# Altium integrated library Analog Devices Clock Generation and Distribution.IntLib: 120 symbols (part 1 of 18)
Pins are listed as number, name and electrical type; pins without a type are passive.

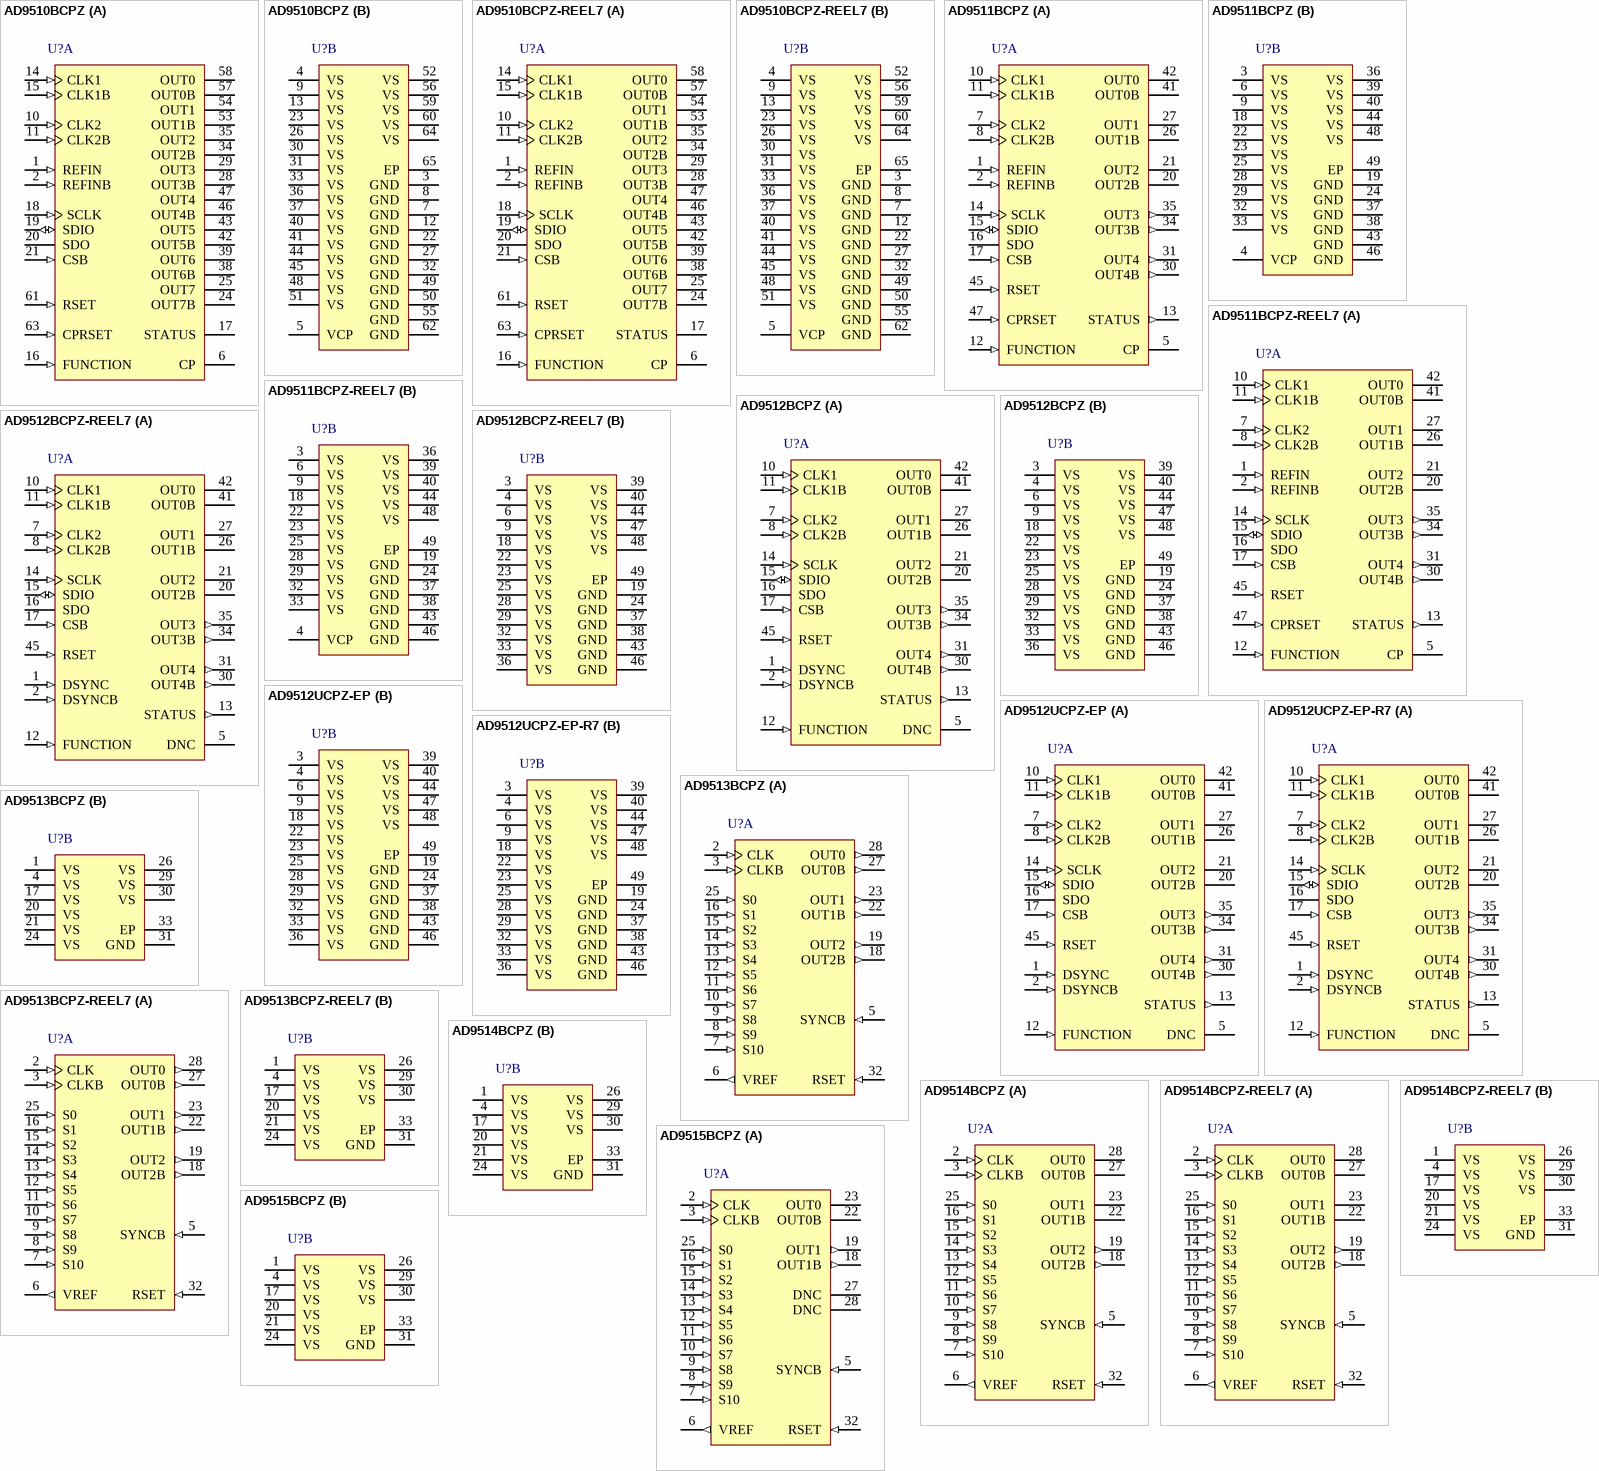
[diagram p0: symbols AD9510BCPZ to AD9515BCPZ]

## AD9510BCPZ
designator U?
8 Outputs, 1.2 GHz Clock Distribution IC with PLL Core, Dividers and Delay Adjust, 3.3 V Supply, Industrial, 64-pin QFN (CP-64-1), Tray; Manufacturer: Analog Devices; PartNumber: AD9510BCPZ; # of Inputs: 2; # of Outputs: 8; Supply Voltage (V): 3.3; I/O Interface: Serial; Max f-out: 1.2 GHz; On-Chip VCO or DCO: No; Output Logic: CMOS, LVDS, LVPECL; DatasheetVersion: Rev. A; PackageVersion: 063006-B, 08/2007; PackageReference: CP-64-1; PackageDescription: 64-Pin Lead Frame Chip Scale Package, Body 9 x 9 mm, Pitch 0.5 mm; Supplier 1: Digi-Key; Supplier Part Number 1: AD9510BCPZ-ND; Supplier 2: Farnell; Supplier Part Number 2: 1528258; Supplier 3: Farnell; Supplier Part Number 3: 1078243; Supplier 4: Newark; Supplier Part Number 4: 19M1011; Supplier 5: Mouser; Supplier Part Number 5: 584-AD9510BCPZ; Packing: Tray; Mounting Technology: Surface Mount; Code_JEDEC: MO-220-VMMD-4; ComponentLink1Description: Manufacturer URL; ComponentLink1URL: http://www.analog.com/en/index.html; ComponentLink2Description: Datasheet; ComponentLink2URL: http://www.analog.com/static/imported-files/data_sheets/AD9510.pdf; ComponentLink3Description: Package Specification; ComponentLink3URL: http://www.analog.com/static/imported-files/packages/PKG_PDF/LFCSP(CP)/CP-64/CP_64_1.pdf; ComponentLink4Description: Product URL; ComponentLink4URL: http://www.analog.com/en/clock-and-timing/clock-generation-and-distribution/ad9510/products/product.html
footprint ADI-CP-64-1_N (QFN, 64-Leads, Body 9x9mm, Pitch 0.5mm, Thermal Pad 4.7x4.7mm, IPC High Density)
footprint ADI-CP-64-1_L (QFN, 64-Leads, Body 9x9mm, Pitch 0.5mm, Thermal Pad 4.7x4.7mm, IPC Low Density)
footprint ADI-CP-64-1_M (QFN, 64-Leads, Body 9x9mm, Pitch 0.5mm, Thermal Pad 4.7x4.7mm, IPC Medium Density)
part A pins: 1 REFIN (in) "PLL Reference Input.", 2 REFINB (in) "Complementary PLL Reference Input.", 6 CP (hiz) "Charge Pump Output.", 10 CLK2 (in) "Clock Input Used to Connect External VCO/VCXO to Feedback Divider, N. CLK2 also drives the distribution section of the chip and may be used as a generic clock input when PLL is not used.", 11 CLK2B (in) "Complementary Clock Input Used in Conjunction with CLK2.", 14 CLK1 (in) "Clock Input that Drives Distribution Section of the Chip.", 15 CLK1B (in) "Complementary Clock Input Used in Conjunction with CLK1.", 16 FUNCTION (in) "Multipurpose Input May Be Programmed as a Reset (RESETB), Sync (SYNCB), or Power-Down (PDB) Pin. This pin is internally pulled down by a 30 k ohm resistor. If this pin is left NC, the part is in reset by default. To avoid (See Datasheet)", 17 STATUS (oc) "Output Used to Monitor PLL Status and Sync Status.", 18 SCLK (in) "Serial Data Clock.", 19 SDIO (io) "Serial Data I/O.", 20 SDO (hiz) "Serial Data Output.", 21 CSB (in) "Serial Port Chip Select.", 24 OUT7B (hiz) "Complementary LVDS/Inverted CMOS Output.", 25 OUT7 (hiz) "LVDS/CMOS Output.", 28 OUT3B (hiz) "Complementary LVPECL Output.", 29 OUT3 (hiz) "LVPECL Output.", 34 OUT2B (hiz) "Complementary LVPECL Output.", 35 OUT2 (hiz) "LVPECL Output.", 38 OUT6B (hiz) "Complementary LVDS/Inverted CMOS Output. OUT6 includes a delay block.", 39 OUT6 (hiz) "LVDS/CMOS Output. OUT6 includes a delay block.", 42 OUT5B (hiz) "Complementary LVDS/Inverted CMOS Output. OUT5 includes a delay block.", 43 OUT5 (hiz) "LVDS/CMOS Output. OUT5 includes a delay block.", 46 OUT4B (hiz) "Complementary LVDS/Inverted CMOS Output.", 47 OUT4 (hiz) "LVDS/CMOS Output.", 53 OUT1B (hiz) "Complementary LVPECL Output.", 54 OUT1 (hiz) "LVPECL Output.", 57 OUT0B (hiz) "Complementary LVPECL Output.", 58 OUT0 (hiz) "LVPECL Output.", 61 RSET (in) "Current Set Resistor to Ground. Nominal value = 4.12 k ohm.", 63 CPRSET (in) "Charge Pump Current Set Resistor to Ground. Nominal value = 5.1 k ohm."
part B pins: 3 GND (power) "Ground.", 4 VS (power) "Power Supply (3.3 V) VS.", 5 VCP (power) "Charge Pump Power Supply VCPS. It should be greater than or equal to VS. VCPS may be set as high as 5.5 V for VCOs requiring extended tuning range", 7 GND (power) "Ground.", 8 GND (power) "Ground.", 9 VS (power) "Power Supply (3.3 V) VS.", 12 GND (power) "Ground.", 13 VS (power) "Power Supply (3.3 V) VS.", 22 GND (power) "Ground.", 23 VS (power) "Power Supply (3.3 V) VS.", 26 VS (power) "Power Supply (3.3 V) VS.", 27 GND (power) "Ground.", 30 VS (power) "Power Supply (3.3 V) VS.", 31 VS (power) "Power Supply (3.3 V) VS.", 32 GND (power) "Ground.", 33 VS (power) "Power Supply (3.3 V) VS.", 36 VS (power) "Power Supply (3.3 V) VS.", 37 VS (power) "Power Supply (3.3 V) VS.", 40 VS (power) "Power Supply (3.3 V) VS.", 41 VS (power) "Power Supply (3.3 V) VS.", 44 VS (power) "Power Supply (3.3 V) VS.", 45 VS (power) "Power Supply (3.3 V) VS.", 48 VS (power) "Power Supply (3.3 V) VS.", 49 GND (power) "Ground.", 50 GND (power) "Ground.", 51 VS (power) "Power Supply (3.3 V) VS.", 52 VS (power) "Power Supply (3.3 V) VS.", 55 GND (power) "Ground.", 56 VS (power) "Power Supply (3.3 V) VS.", 59 VS (power) "Power Supply (3.3 V) VS.", 60 VS (power) "Power Supply (3.3 V) VS.", 62 GND (power) "Ground.", 64 VS (power) "Power Supply (3.3 V) VS.", 65 EP (power) "Note that the exposed paddle on this package is an electrical connection as well as a thermal enhancement. For the device to function properly, the paddle must be attached to ground, GND."

## AD9510BCPZ-REEL7
designator U?
8 Outputs, 1.2 GHz Clock Distribution IC with PLL Core, Dividers and Delay Adjust, 3.3 V Supply, Industrial, 64-pin QFN (CP-64-1), Reel; Manufacturer: Analog Devices; PartNumber: AD9510BCPZ-REEL7; # of Inputs: 2; # of Outputs: 8; Supply Voltage (V): 3.3; I/O Interface: Serial; Max f-out: 1.2 GHz; On-Chip VCO or DCO: No; Output Logic: CMOS, LVDS, LVPECL; DatasheetVersion: Rev. A; PackageVersion: 063006-B, 08/2007; PackageReference: CP-64-1; PackageDescription: 64-Pin Lead Frame Chip Scale Package, Body 9 x 9 mm, Pitch 0.5 mm; Supplier 1: Digi-Key; Supplier Part Number 1: AD9510BCPZ-REEL7-ND; Supplier 2: Newark; Supplier Part Number 2: 59K7280; Supplier 3: Mouser; Supplier Part Number 3: 584-AD9510BCPZ-R7; Packing: Reel; Mounting Technology: Surface Mount; Code_JEDEC: MO-220-VMMD-4; ComponentLink1Description: Manufacturer URL; ComponentLink1URL: http://www.analog.com/en/index.html; ComponentLink2Description: Datasheet; ComponentLink2URL: http://www.analog.com/static/imported-files/data_sheets/AD9510.pdf; ComponentLink3Description: Package Specification; ComponentLink3URL: http://www.analog.com/static/imported-files/packages/PKG_PDF/LFCSP(CP)/CP-64/CP_64_1.pdf; ComponentLink4Description: Product URL; ComponentLink4URL: http://www.analog.com/en/clock-and-timing/clock-generation-and-distribution/ad9510/products/product.html
footprint ADI-CP-64-1_N (QFN, 64-Leads, Body 9x9mm, Pitch 0.5mm, Thermal Pad 4.7x4.7mm, IPC High Density)
footprint ADI-CP-64-1_L (QFN, 64-Leads, Body 9x9mm, Pitch 0.5mm, Thermal Pad 4.7x4.7mm, IPC Low Density)
footprint ADI-CP-64-1_M (QFN, 64-Leads, Body 9x9mm, Pitch 0.5mm, Thermal Pad 4.7x4.7mm, IPC Medium Density)
part A pins: 1 REFIN (in) "PLL Reference Input.", 2 REFINB (in) "Complementary PLL Reference Input.", 6 CP (hiz) "Charge Pump Output.", 10 CLK2 (in) "Clock Input Used to Connect External VCO/VCXO to Feedback Divider, N. CLK2 also drives the distribution section of the chip and may be used as a generic clock input when PLL is not used.", 11 CLK2B (in) "Complementary Clock Input Used in Conjunction with CLK2.", 14 CLK1 (in) "Clock Input that Drives Distribution Section of the Chip.", 15 CLK1B (in) "Complementary Clock Input Used in Conjunction with CLK1.", 16 FUNCTION (in) "Multipurpose Input May Be Programmed as a Reset (RESETB), Sync (SYNCB), or Power-Down (PDB) Pin. This pin is internally pulled down by a 30 k ohm resistor. If this pin is left NC, the part is in reset by default. To avoid (See Datasheet)", 17 STATUS (oc) "Output Used to Monitor PLL Status and Sync Status.", 18 SCLK (in) "Serial Data Clock.", 19 SDIO (io) "Serial Data I/O.", 20 SDO (hiz) "Serial Data Output.", 21 CSB (in) "Serial Port Chip Select.", 24 OUT7B (hiz) "Complementary LVDS/Inverted CMOS Output.", 25 OUT7 (hiz) "LVDS/CMOS Output.", 28 OUT3B (hiz) "Complementary LVPECL Output.", 29 OUT3 (hiz) "LVPECL Output.", 34 OUT2B (hiz) "Complementary LVPECL Output.", 35 OUT2 (hiz) "LVPECL Output.", 38 OUT6B (hiz) "Complementary LVDS/Inverted CMOS Output. OUT6 includes a delay block.", 39 OUT6 (hiz) "LVDS/CMOS Output. OUT6 includes a delay block.", 42 OUT5B (hiz) "Complementary LVDS/Inverted CMOS Output. OUT5 includes a delay block.", 43 OUT5 (hiz) "LVDS/CMOS Output. OUT5 includes a delay block.", 46 OUT4B (hiz) "Complementary LVDS/Inverted CMOS Output.", 47 OUT4 (hiz) "LVDS/CMOS Output.", 53 OUT1B (hiz) "Complementary LVPECL Output.", 54 OUT1 (hiz) "LVPECL Output.", 57 OUT0B (hiz) "Complementary LVPECL Output.", 58 OUT0 (hiz) "LVPECL Output.", 61 RSET (in) "Current Set Resistor to Ground. Nominal value = 4.12 k ohm.", 63 CPRSET (in) "Charge Pump Current Set Resistor to Ground. Nominal value = 5.1 k ohm."
part B pins: 3 GND (power) "Ground.", 4 VS (power) "Power Supply (3.3 V) VS.", 5 VCP (power) "Charge Pump Power Supply VCPS. It should be greater than or equal to VS. VCPS may be set as high as 5.5 V for VCOs requiring extended tuning range", 7 GND (power) "Ground.", 8 GND (power) "Ground.", 9 VS (power) "Power Supply (3.3 V) VS.", 12 GND (power) "Ground.", 13 VS (power) "Power Supply (3.3 V) VS.", 22 GND (power) "Ground.", 23 VS (power) "Power Supply (3.3 V) VS.", 26 VS (power) "Power Supply (3.3 V) VS.", 27 GND (power) "Ground.", 30 VS (power) "Power Supply (3.3 V) VS.", 31 VS (power) "Power Supply (3.3 V) VS.", 32 GND (power) "Ground.", 33 VS (power) "Power Supply (3.3 V) VS.", 36 VS (power) "Power Supply (3.3 V) VS.", 37 VS (power) "Power Supply (3.3 V) VS.", 40 VS (power) "Power Supply (3.3 V) VS.", 41 VS (power) "Power Supply (3.3 V) VS.", 44 VS (power) "Power Supply (3.3 V) VS.", 45 VS (power) "Power Supply (3.3 V) VS.", 48 VS (power) "Power Supply (3.3 V) VS.", 49 GND (power) "Ground.", 50 GND (power) "Ground.", 51 VS (power) "Power Supply (3.3 V) VS.", 52 VS (power) "Power Supply (3.3 V) VS.", 55 GND (power) "Ground.", 56 VS (power) "Power Supply (3.3 V) VS.", 59 VS (power) "Power Supply (3.3 V) VS.", 60 VS (power) "Power Supply (3.3 V) VS.", 62 GND (power) "Ground.", 64 VS (power) "Power Supply (3.3 V) VS.", 65 EP (power) "Note that the exposed paddle on this package is an electrical connection as well as a thermal enhancement. For the device to function properly, the paddle must be attached to ground, GND."

## AD9511BCPZ
designator U?
5 Outputs, 1.2 GHz Clock Distribution IC with PLL Core, Dividers and Delay Adjust, 3.3 V Supply, Industrial, 48-pin QFN (CP-48-1), Tray; Manufacturer: Analog Devices; PartNumber: AD9511BCPZ; # of Inputs: 2; # of Outputs: 5; Supply Voltage (V): 3.3; I/O Interface: Serial; Max f-out: 1.2 GHz; On-Chip VCO or DCO: No; Output Logic: CMOS, LVDS, LVPECL; DatasheetVersion: Rev. A; PackageReference: CP-48-1; PackageDescription: 48-Pin Lead Frame Chip Scale Package, Body 7 x 7 mm, Pitch 0.5 mm; Supplier 1: Digi-Key; Supplier Part Number 1: AD9511BCPZ-ND; Supplier 2: Farnell; Supplier Part Number 2: 1078242; Supplier 3: Newark; Supplier Part Number 3: 19M8941; Supplier 4: Mouser; Supplier Part Number 4: 584-AD9511BCPZ; Packing: Tray; Mounting Technology: Surface Mount; Code_JEDEC: MO-220-VKKD-2; ComponentLink1Description: Manufacturer URL; ComponentLink1URL: http://www.analog.com/en/index.html; ComponentLink2Description: Datasheet; ComponentLink2URL: http://www.analog.com/static/imported-files/data_sheets/AD9511.pdf; ComponentLink3Description: Package Specification; ComponentLink3URL: http:/www.analog.com/static/imported-files/packages/PKG_PDF/LFCSP(CP)/CP-48/CP_48_1.pdf; ComponentLink4Description: Product URL; ComponentLink4URL: http://www.analog.com/en/clock-and-timing/clock-generation-and-distribution/ad9511/products/product.html
footprint ADI-CP-48-1_N (QFN, 48-Leads, Body 7x7mm, Pitch 0.5mm, IPC Medium Density)
footprint ADI-CP-48-1_L (QFN, 48-Leads, Body 7x7mm, Pitch 0.5mm, IPC High Density)
footprint ADI-CP-48-1_M (QFN, 48-Leads, Body 7x7mm, Pitch 0.5mm, IPC Low Density)
part A pins: 1 REFIN (in) "PLL Reference Input.", 2 REFINB (in) "Complementary PLL Reference Input.", 5 CP (hiz) "Charge Pump Output.", 7 CLK2 (in) "Clock Input. Used to connect external VCO/VCXO to feedback divider, N. CLK2 also drives the distribution section of the chip and may be used as a generic clock input when PLL is not used.", 8 CLK2B (in) "Complementary Clock Input. Used in conjunction with CLK2.", 10 CLK1 (in) "Clock Input. Drives distribution section of the chip.", 11 CLK1B (in) "Complementary Clock Input. Used in conjunction with CLK1.", 12 FUNCTION (in) "Multipurpose Input. May be programmed as a reset (RESETB), sync (SYNCB), or power-down (PDB) pin. This pin is internally pulled down by a 30 k ohm resistor. If this pin is left NC, the part is in reset by default. To avoid (See Datasheet)", 13 STATUS (out) "Output Used to Monitor PLL Status and Sync Status.", 14 SCLK (in) "Serial Data Clock.", 15 SDIO (io) "Serial Data I/O.", 16 SDO (hiz) "Serial Data Output.", 17 CSB (in) "Serial Port Chip Select.", 20 OUT2B (oe) "Complementary LVPECL Output.", 21 OUT2 (oe) "LVPECL Output.", 26 OUT1B (oe) "Complementary LVPECL Output.", 27 OUT1 (oe) "LVPECL Output.", 30 OUT4B (out) "Complementary LVDS/Inverted CMOS Output. OUT4 includes a delay block.", 31 OUT4 (out) "LVDS/CMOS Output. OUT4 includes a delay block.", 34 OUT3B (out) "Complementary LVDS/Inverted CMOS Output.", 35 OUT3 (out) "LVDS/CMOS Output.", 41 OUT0B (oe) "Complementary LVPECL Output.", 42 OUT0 (oe) "LVPECL Output.", 45 RSET (in) "Current Set Resistor to Ground. Nominal value = 4.12 k ohm.", 47 CPRSET (in) "Charge Pump Current Set Resistor to Ground. Nominal value = 5.1 k ohm."
part B pins: 3 VS (power) "Power Supply (3.3 V).", 4 VCP (power) "Charge Pump Power Supply. It should be greater than or equal to VS. VCP can be set as high as 5.5 V for VCOs, requiring extended tuning range.", 6 VS (power) "Power Supply (3.3 V).", 9 VS (power) "Power Supply (3.3 V).", 18 VS (power) "Power Supply (3.3 V).", 19 GND (power) "Ground.", 22 VS (power) "Power Supply (3.3 V).", 23 VS (power) "Power Supply (3.3 V).", 24 GND (power) "Ground.", 25 VS (power) "Power Supply (3.3 V).", 28 VS (power) "Power Supply (3.3 V).", 29 VS (power) "Power Supply (3.3 V).", 32 VS (power) "Power Supply (3.3 V).", 33 VS (power) "Power Supply (3.3 V).", 36 VS (power) "Power Supply (3.3 V).", 37 GND (power) "Ground.", 38 GND (power) "Ground.", 39 VS (power) "Power Supply (3.3 V).", 40 VS (power) "Power Supply (3.3 V).", 43 GND (power) "Ground.", 44 VS (power) "Power Supply (3.3 V).", 46 GND (power) "Ground.", 48 VS (power) "Power Supply (3.3 V).", 49 EP (power) "Note that the exposed paddle on this package is an electrical connection as well as a thermal enhancement. For the device to function properly, the paddle must be attached to ground, GND."

## AD9511BCPZ-REEL7
designator U?
5 Outputs, 1.2 GHz Clock Distribution IC with PLL Core, Dividers and Delay Adjust, 3.3 V Supply, Industrial, 48-pin QFN (CP-48-1), Reel; Manufacturer: Analog Devices; PartNumber: AD9511BCPZ-REEL7; # of Inputs: 2; # of Outputs: 5; Supply Voltage (V): 3.3; I/O Interface: Serial; Max f-out: 1.2 GHz; On-Chip VCO or DCO: No; Output Logic: CMOS, LVDS, LVPECL; DatasheetVersion: Rev. A; PackageReference: CP-48-1; PackageDescription: 48-Pin Lead Frame Chip Scale Package, Body 7 x 7 mm, Pitch 0.5 mm; Supplier 1: Digi-Key; Supplier Part Number 1: AD9511BCPZ-REEL7TR-ND; Supplier 2: Digi-Key; Supplier Part Number 2: AD9511BCPZ-REEL7CT-ND; Supplier 3: Digi-Key; Supplier Part Number 3: AD9511BCPZ-REEL7DKR-ND; Supplier 4: Newark; Supplier Part Number 4: 59K7284; Supplier 5: Mouser; Supplier Part Number 5: 584-AD9511BCPZ-R7; Packing: Reel; Mounting Technology: Surface Mount; Code_JEDEC: MO-220-VKKD-2; ComponentLink1Description: Manufacturer URL; ComponentLink1URL: http://www.analog.com/en/index.html; ComponentLink2Description: Datasheet; ComponentLink2URL: http://www.analog.com/static/imported-files/data_sheets/AD9511.pdf; ComponentLink3Description: Package Specification; ComponentLink3URL: http:/www.analog.com/static/imported-files/packages/PKG_PDF/LFCSP(CP)/CP-48/CP_48_1.pdf; ComponentLink4Description: Product URL; ComponentLink4URL: http://www.analog.com/en/clock-and-timing/clock-generation-and-distribution/ad9511/products/product.html
footprint ADI-CP-48-1_N (QFN, 48-Leads, Body 7x7mm, Pitch 0.5mm, IPC Medium Density)
footprint ADI-CP-48-1_L (QFN, 48-Leads, Body 7x7mm, Pitch 0.5mm, IPC High Density)
footprint ADI-CP-48-1_M (QFN, 48-Leads, Body 7x7mm, Pitch 0.5mm, IPC Low Density)
part A pins: 1 REFIN (in) "PLL Reference Input.", 2 REFINB (in) "Complementary PLL Reference Input.", 5 CP (hiz) "Charge Pump Output.", 7 CLK2 (in) "Clock Input. Used to connect external VCO/VCXO to feedback divider, N. CLK2 also drives the distribution section of the chip and may be used as a generic clock input when PLL is not used.", 8 CLK2B (in) "Complementary Clock Input. Used in conjunction with CLK2.", 10 CLK1 (in) "Clock Input. Drives distribution section of the chip.", 11 CLK1B (in) "Complementary Clock Input. Used in conjunction with CLK1.", 12 FUNCTION (in) "Multipurpose Input. May be programmed as a reset (RESETB), sync (SYNCB), or power-down (PDB) pin. This pin is internally pulled down by a 30 k ohm resistor. If this pin is left NC, the part is in reset by default. To avoid (See Datasheet)", 13 STATUS (out) "Output Used to Monitor PLL Status and Sync Status.", 14 SCLK (in) "Serial Data Clock.", 15 SDIO (io) "Serial Data I/O.", 16 SDO (hiz) "Serial Data Output.", 17 CSB (in) "Serial Port Chip Select.", 20 OUT2B (oe) "Complementary LVPECL Output.", 21 OUT2 (oe) "LVPECL Output.", 26 OUT1B (oe) "Complementary LVPECL Output.", 27 OUT1 (oe) "LVPECL Output.", 30 OUT4B (out) "Complementary LVDS/Inverted CMOS Output. OUT4 includes a delay block.", 31 OUT4 (out) "LVDS/CMOS Output. OUT4 includes a delay block.", 34 OUT3B (out) "Complementary LVDS/Inverted CMOS Output.", 35 OUT3 (out) "LVDS/CMOS Output.", 41 OUT0B (oe) "Complementary LVPECL Output.", 42 OUT0 (oe) "LVPECL Output.", 45 RSET (in) "Current Set Resistor to Ground. Nominal value = 4.12 k ohm.", 47 CPRSET (in) "Charge Pump Current Set Resistor to Ground. Nominal value = 5.1 k ohm."
part B pins: 3 VS (power) "Power Supply (3.3 V).", 4 VCP (power) "Charge Pump Power Supply. It should be greater than or equal to VS. VCP can be set as high as 5.5 V for VCOs, requiring extended tuning range.", 6 VS (power) "Power Supply (3.3 V).", 9 VS (power) "Power Supply (3.3 V).", 18 VS (power) "Power Supply (3.3 V).", 19 GND (power) "Ground.", 22 VS (power) "Power Supply (3.3 V).", 23 VS (power) "Power Supply (3.3 V).", 24 GND (power) "Ground.", 25 VS (power) "Power Supply (3.3 V).", 28 VS (power) "Power Supply (3.3 V).", 29 VS (power) "Power Supply (3.3 V).", 32 VS (power) "Power Supply (3.3 V).", 33 VS (power) "Power Supply (3.3 V).", 36 VS (power) "Power Supply (3.3 V).", 37 GND (power) "Ground.", 38 GND (power) "Ground.", 39 VS (power) "Power Supply (3.3 V).", 40 VS (power) "Power Supply (3.3 V).", 43 GND (power) "Ground.", 44 VS (power) "Power Supply (3.3 V).", 46 GND (power) "Ground.", 48 VS (power) "Power Supply (3.3 V).", 49 EP (power) "Note that the exposed paddle on this package is an electrical connection as well as a thermal enhancement. For the device to function properly, the paddle must be attached to ground, GND."

## AD9512BCPZ
designator U?
5 Outputs, 1.2 GHz Clock Distribution IC with Dividers and Delay Adjust, 3.3 V Supply, Industrial, 48-pin QFN (CP-48-1), Tray; Manufacturer: Analog Devices; PartNumber: AD9512BCPZ; # of Inputs: 2; # of Outputs: 5; Supply Voltage (V): 3.3; I/O Interface: Serial; Max f-out: 1.2 GHz; On-Chip VCO or DCO: No; Output Logic: CMOS, LVDS, LVPECL; DatasheetVersion: Rev. A; PackageReference: CP-48-1; PackageDescription: 48-Pin Lead Frame Chip Scale Package, Body 7 x 7 mm, Pitch 0.5 mm; Supplier 1: Digi-Key; Supplier Part Number 1: AD9512BCPZ-ND; Supplier 2: Farnell; Supplier Part Number 2: 1078241; Supplier 3: Newark; Supplier Part Number 3: 19M8942; Supplier 4: Mouser; Supplier Part Number 4: 584-AD9512BCPZ; Packing: Tray; Mounting Technology: Surface Mount; Code_JEDEC: MO-220-VKKD-2; ComponentLink1Description: Manufacturer URL; ComponentLink1URL: http://www.analog.com/en/index.html; ComponentLink2Description: Datasheet; ComponentLink2URL: http://www.analog.com/static/imported-files/data_sheets/AD9512.pdf; ComponentLink3Description: Package Specification; ComponentLink3URL: http:/www.analog.com/static/imported-files/packages/PKG_PDF/LFCSP(CP)/CP-48/CP_48_1.pdf; ComponentLink4Description: Product URL; ComponentLink4URL: http://www.analog.com/en/clock-and-timing/clock-generation-and-distribution/ad9512/products/product.html; ComponentLink5Description: Reference Circuit; ComponentLink5URL: http://www.analog.com/en/clock-and-timing/clock-generation-and-distribution/ad9512/products/product.html#product-recommendations
footprint ADI-CP-48-1_N (QFN, 48-Leads, Body 7x7mm, Pitch 0.5mm, IPC Medium Density)
footprint ADI-CP-48-1_L (QFN, 48-Leads, Body 7x7mm, Pitch 0.5mm, IPC High Density)
footprint ADI-CP-48-1_M (QFN, 48-Leads, Body 7x7mm, Pitch 0.5mm, IPC Low Density)
part A pins: 1 DSYNC (in) "Detect Sync. Used for multichip synchronization.", 2 DSYNCB (in) "Detect Sync Complement. Used for multichip synchronization.", 5 DNC "Do Not Connect.", 7 CLK2 (in) "Clock Input.", 8 CLK2B (in) "Complementary Clock Input. Used in conjunction with CLK2.", 10 CLK1 (in) "Clock Input.", 11 CLK1B (in) "Complementary Clock Input. Used in conjunction with CLK1.", 12 FUNCTION (in) "Multipurpose Input. Can be programmed as a reset (RESETB), sync (SYNCB), or power-down (PDB) pin.", 13 STATUS (out) "Output Used to Monitor the Status of Multichip Synchronization.", 14 SCLK (in) "Serial Data Clock.", 15 SDIO (io) "Serial Data I/O.", 16 SDO (hiz) "Serial Data Output.", 17 CSB (in) "Serial Port Chip Select.", 20 OUT2B (oe) "Complementary LVPECL Output.", 21 OUT2 (oe) "LVPECL Output.", 26 OUT1B (oe) "Complementary LVPECL Output.", 27 OUT1 (oe) "LVPECL Output.", 30 OUT4B (out) "Complementary LVDS/Inverted CMOS Output. OUT4 includes a delay block.", 31 OUT4 (out) "LVDS/CMOS Output. OUT4 includes a delay block.", 34 OUT3B (out) "Complementary LVDS/Inverted CMOS Output.", 35 OUT3 (out) "LVDS/CMOS Output.", 41 OUT0B (oe) "Complementary LVPECL Output.", 42 OUT0 (oe) "LVPECL Output.", 45 RSET (in) "Current Set Resistor to Ground. Nominal value = 4.12 k ohm."
part B pins: 3 VS (power) "Power Supply (3.3 V).", 4 VS (power) "Power Supply (3.3 V).", 6 VS (power) "Power Supply (3.3 V).", 9 VS (power) "Power Supply (3.3 V).", 18 VS (power) "Power Supply (3.3 V).", 19 GND (power) "Ground.", 22 VS (power) "Power Supply (3.3 V).", 23 VS (power) "Power Supply (3.3 V).", 24 GND (power) "Ground", 25 VS (power) "Power Supply (3.3 V).", 28 VS (power) "Power Supply (3.3 V).", 29 VS (power) "Power Supply (3.3 V).", 32 VS (power) "Power Supply (3.3 V).", 33 VS (power) "Power Supply (3.3 V).", 36 VS (power) "Power Supply (3.3 V).", 37 GND (power) "Ground", 38 GND (power) "Ground", 39 VS (power) "Power Supply (3.3 V).", 40 VS (power) "Power Supply (3.3 V).", 43 GND (power) "Ground", 44 VS (power) "Power Supply (3.3 V).", 46 GND (power) "Ground", 47 VS (power) "Power Supply (3.3 V).", 48 VS (power) "Power Supply (3.3 V).", 49 EP (power) "The exposed paddle on this package is an electrical connection as well as a thermal enhancement. For the device to function properly, the paddle must be attached to ground, GND."

## AD9512BCPZ-REEL7
designator U?
5 Outputs, 1.2 GHz Clock Distribution IC with Dividers and Delay Adjust, 3.3 V Supply, Industrial, 48-pin QFN (CP-48-1), Reel; Manufacturer: Analog Devices; PartNumber: AD9512BCPZ-REEL7; # of Inputs: 2; # of Outputs: 5; Supply Voltage (V): 3.3; I/O Interface: Serial; Max f-out: 1.2 GHz; On-Chip VCO or DCO: No; Output Logic: CMOS, LVDS, LVPECL; DatasheetVersion: Rev. A; PackageReference: CP-48-1; PackageDescription: 48-Pin Lead Frame Chip Scale Package, Body 7 x 7 mm, Pitch 0.5 mm; Supplier 1: Digi-Key; Supplier Part Number 1: AD9512BCPZ-REEL7-ND; Supplier 2: Newark; Supplier Part Number 2: 59K7287; Supplier 3: Mouser; Supplier Part Number 3: 584-AD9512BCPZ-R7; Packing: Reel; Mounting Technology: Surface Mount; Code_JEDEC: MO-220-VKKD-2; ComponentLink1Description: Manufacturer URL; ComponentLink1URL: http://www.analog.com/en/index.html; ComponentLink2Description: Datasheet; ComponentLink2URL: http://www.analog.com/static/imported-files/data_sheets/AD9512.pdf; ComponentLink3Description: Package Specification; ComponentLink3URL: http:/www.analog.com/static/imported-files/packages/PKG_PDF/LFCSP(CP)/CP-48/CP_48_1.pdf; ComponentLink4Description: Product URL; ComponentLink4URL: http://www.analog.com/en/clock-and-timing/clock-generation-and-distribution/ad9512/products/product.html; ComponentLink5Description: Reference Circuit; ComponentLink5URL: http://www.analog.com/en/clock-and-timing/clock-generation-and-distribution/ad9512/products/product.html#product-recommendations
footprint ADI-CP-48-1_N (QFN, 48-Leads, Body 7x7mm, Pitch 0.5mm, IPC Medium Density)
footprint ADI-CP-48-1_L (QFN, 48-Leads, Body 7x7mm, Pitch 0.5mm, IPC High Density)
footprint ADI-CP-48-1_M (QFN, 48-Leads, Body 7x7mm, Pitch 0.5mm, IPC Low Density)
part A pins: 1 DSYNC (in) "Detect Sync. Used for multichip synchronization.", 2 DSYNCB (in) "Detect Sync Complement. Used for multichip synchronization.", 5 DNC "Do Not Connect.", 7 CLK2 (in) "Clock Input.", 8 CLK2B (in) "Complementary Clock Input. Used in conjunction with CLK2.", 10 CLK1 (in) "Clock Input.", 11 CLK1B (in) "Complementary Clock Input. Used in conjunction with CLK1.", 12 FUNCTION (in) "Multipurpose Input. Can be programmed as a reset (RESETB), sync (SYNCB), or power-down (PDB) pin.", 13 STATUS (out) "Output Used to Monitor the Status of Multichip Synchronization.", 14 SCLK (in) "Serial Data Clock.", 15 SDIO (io) "Serial Data I/O.", 16 SDO (hiz) "Serial Data Output.", 17 CSB (in) "Serial Port Chip Select.", 20 OUT2B (oe) "Complementary LVPECL Output.", 21 OUT2 (oe) "LVPECL Output.", 26 OUT1B (oe) "Complementary LVPECL Output.", 27 OUT1 (oe) "LVPECL Output.", 30 OUT4B (out) "Complementary LVDS/Inverted CMOS Output. OUT4 includes a delay block.", 31 OUT4 (out) "LVDS/CMOS Output. OUT4 includes a delay block.", 34 OUT3B (out) "Complementary LVDS/Inverted CMOS Output.", 35 OUT3 (out) "LVDS/CMOS Output.", 41 OUT0B (oe) "Complementary LVPECL Output.", 42 OUT0 (oe) "LVPECL Output.", 45 RSET (in) "Current Set Resistor to Ground. Nominal value = 4.12 k ohm."
part B pins: 3 VS (power) "Power Supply (3.3 V).", 4 VS (power) "Power Supply (3.3 V).", 6 VS (power) "Power Supply (3.3 V).", 9 VS (power) "Power Supply (3.3 V).", 18 VS (power) "Power Supply (3.3 V).", 19 GND (power) "Ground.", 22 VS (power) "Power Supply (3.3 V).", 23 VS (power) "Power Supply (3.3 V).", 24 GND (power) "Ground", 25 VS (power) "Power Supply (3.3 V).", 28 VS (power) "Power Supply (3.3 V).", 29 VS (power) "Power Supply (3.3 V).", 32 VS (power) "Power Supply (3.3 V).", 33 VS (power) "Power Supply (3.3 V).", 36 VS (power) "Power Supply (3.3 V).", 37 GND (power) "Ground", 38 GND (power) "Ground", 39 VS (power) "Power Supply (3.3 V).", 40 VS (power) "Power Supply (3.3 V).", 43 GND (power) "Ground", 44 VS (power) "Power Supply (3.3 V).", 46 GND (power) "Ground", 47 VS (power) "Power Supply (3.3 V).", 48 VS (power) "Power Supply (3.3 V).", 49 EP (power) "The exposed paddle on this package is an electrical connection as well as a thermal enhancement. For the device to function properly, the paddle must be attached to ground, GND."

## AD9512UCPZ-EP
designator U?
5 Outputs, 1.2 GHz Clock Distribution IC with Dividers, 3.3 V Supply, Industrial, 48-pin QFN (CP-48-1), Tray; Manufacturer: Analog Devices; PartNumber: AD9512UCPZ-EP; # of Inputs: 2; # of Outputs: 5; Supply Voltage (V): 3.3; I/O Interface: Serial; Max f-out: 1.2 GHz; On-Chip VCO or DCO: No; Output Logic: CMOS, LVDS, LVPECL; DatasheetVersion: Rev. A; PackageReference: CP-48-1; PackageDescription: 48-Pin Lead Frame Chip Scale Package, Body 7 x 7 mm, Pitch 0.5 mm; Supplier 1: Digi-Key; Supplier Part Number 1: AD9512UCPZ-EP-ND; Supplier 2: Mouser; Supplier Part Number 2: 584-AD9512UCPZ-EP; Packing: Tray; Mounting Technology: Surface Mount; Code_JEDEC: MO-220-VKKD-2; ComponentLink1Description: Manufacturer URL; ComponentLink1URL: http://www.analog.com/en/index.html; ComponentLink2Description: Datasheet; ComponentLink2URL: http://www.analog.com/static/imported-files/data_sheets/AD9512.pdf; ComponentLink3Description: Package Specification; ComponentLink3URL: http:/www.analog.com/static/imported-files/packages/PKG_PDF/LFCSP(CP)/CP-48/CP_48_1.pdf; ComponentLink4Description: Product URL; ComponentLink4URL: http://www.analog.com/en/clock-and-timing/clock-generation-and-distribution/ad9512/products/product.html; ComponentLink5Description: Reference Circuit; ComponentLink5URL: http://www.analog.com/en/clock-and-timing/clock-generation-and-distribution/ad9512/products/product.html#product-recommendations
footprint ADI-CP-48-1_N (QFN, 48-Leads, Body 7x7mm, Pitch 0.5mm, IPC Medium Density)
footprint ADI-CP-48-1_L (QFN, 48-Leads, Body 7x7mm, Pitch 0.5mm, IPC High Density)
footprint ADI-CP-48-1_M (QFN, 48-Leads, Body 7x7mm, Pitch 0.5mm, IPC Low Density)
part A pins: 1 DSYNC (in) "Detect Sync. Used for multichip synchronization.", 2 DSYNCB (in) "Detect Sync Complement. Used for multichip synchronization.", 5 DNC "Do Not Connect.", 7 CLK2 (in) "Clock Input.", 8 CLK2B (in) "Complementary Clock Input. Used in conjunction with CLK2.", 10 CLK1 (in) "Clock Input.", 11 CLK1B (in) "Complementary Clock Input. Used in conjunction with CLK1.", 12 FUNCTION (in) "Multipurpose Input. Can be programmed as a reset (RESETB), sync (SYNCB), or power-down (PDB) pin.", 13 STATUS (out) "Output Used to Monitor the Status of Multichip Synchronization.", 14 SCLK (in) "Serial Data Clock.", 15 SDIO (io) "Serial Data I/O.", 16 SDO (hiz) "Serial Data Output.", 17 CSB (in) "Serial Port Chip Select.", 20 OUT2B (oe) "Complementary LVPECL Output.", 21 OUT2 (oe) "LVPECL Output.", 26 OUT1B (oe) "Complementary LVPECL Output.", 27 OUT1 (oe) "LVPECL Output.", 30 OUT4B (out) "Complementary LVDS/Inverted CMOS Output. OUT4 includes a delay block.", 31 OUT4 (out) "LVDS/CMOS Output. OUT4 includes a delay block.", 34 OUT3B (out) "Complementary LVDS/Inverted CMOS Output.", 35 OUT3 (out) "LVDS/CMOS Output.", 41 OUT0B (oe) "Complementary LVPECL Output.", 42 OUT0 (oe) "LVPECL Output.", 45 RSET (in) "Current Set Resistor to Ground. Nominal value = 4.12 k ohm."
part B pins: 3 VS (power) "Power Supply (3.3 V).", 4 VS (power) "Power Supply (3.3 V).", 6 VS (power) "Power Supply (3.3 V).", 9 VS (power) "Power Supply (3.3 V).", 18 VS (power) "Power Supply (3.3 V).", 19 GND (power) "Ground.", 22 VS (power) "Power Supply (3.3 V).", 23 VS (power) "Power Supply (3.3 V).", 24 GND (power) "Ground", 25 VS (power) "Power Supply (3.3 V).", 28 VS (power) "Power Supply (3.3 V).", 29 VS (power) "Power Supply (3.3 V).", 32 VS (power) "Power Supply (3.3 V).", 33 VS (power) "Power Supply (3.3 V).", 36 VS (power) "Power Supply (3.3 V).", 37 GND (power) "Ground", 38 GND (power) "Ground", 39 VS (power) "Power Supply (3.3 V).", 40 VS (power) "Power Supply (3.3 V).", 43 GND (power) "Ground", 44 VS (power) "Power Supply (3.3 V).", 46 GND (power) "Ground", 47 VS (power) "Power Supply (3.3 V).", 48 VS (power) "Power Supply (3.3 V).", 49 EP (power) "The exposed paddle on this package is an electrical connection as well as a thermal enhancement. For the device to function properly, the paddle must be attached to ground, GND."

## AD9512UCPZ-EP-R7
designator U?
5 Outputs, 1.2 GHz Clock Distribution IC with Dividers, 3.3 V Supply, Industrial, 48-pin QFN (CP-48-1), Reel; Manufacturer: Analog Devices; PartNumber: AD9512UCPZ-EP-R7; # of Inputs: 2; # of Outputs: 5; Supply Voltage (V): 3.3; I/O Interface: Serial; Max f-out: 1.2 GHz; On-Chip VCO or DCO: No; Output Logic: CMOS, LVDS, LVPECL; DatasheetVersion: Rev. A; PackageReference: CP-48-1; PackageDescription: 48-Pin Lead Frame Chip Scale Package, Body 7 x 7 mm, Pitch 0.5 mm; Supplier 1: Digi-Key; Supplier Part Number 1: AD9512UCPZ-EP-R7-ND; Supplier 2: Mouser; Supplier Part Number 2: 584-AD9512UCPZ-EP-R7; Packing: Reel; Mounting Technology: Surface Mount; Code_JEDEC: MO-220-VKKD-2; ComponentLink1Description: Manufacturer URL; ComponentLink1URL: http://www.analog.com/en/index.html; ComponentLink2Description: Datasheet; ComponentLink2URL: http://www.analog.com/static/imported-files/data_sheets/AD9512.pdf; ComponentLink3Description: Package Specification; ComponentLink3URL: http:/www.analog.com/static/imported-files/packages/PKG_PDF/LFCSP(CP)/CP-48/CP_48_1.pdf; ComponentLink4Description: Product URL; ComponentLink4URL: http://www.analog.com/en/clock-and-timing/clock-generation-and-distribution/ad9512/products/product.html; ComponentLink5Description: Reference Circuit; ComponentLink5URL: http://www.analog.com/en/clock-and-timing/clock-generation-and-distribution/ad9512/products/product.html#product-recommendations
footprint ADI-CP-48-1_N (QFN, 48-Leads, Body 7x7mm, Pitch 0.5mm, IPC Medium Density)
footprint ADI-CP-48-1_L (QFN, 48-Leads, Body 7x7mm, Pitch 0.5mm, IPC High Density)
footprint ADI-CP-48-1_M (QFN, 48-Leads, Body 7x7mm, Pitch 0.5mm, IPC Low Density)
part A pins: 1 DSYNC (in) "Detect Sync. Used for multichip synchronization.", 2 DSYNCB (in) "Detect Sync Complement. Used for multichip synchronization.", 5 DNC "Do Not Connect.", 7 CLK2 (in) "Clock Input.", 8 CLK2B (in) "Complementary Clock Input. Used in conjunction with CLK2.", 10 CLK1 (in) "Clock Input.", 11 CLK1B (in) "Complementary Clock Input. Used in conjunction with CLK1.", 12 FUNCTION (in) "Multipurpose Input. Can be programmed as a reset (RESETB), sync (SYNCB), or power-down (PDB) pin.", 13 STATUS (out) "Output Used to Monitor the Status of Multichip Synchronization.", 14 SCLK (in) "Serial Data Clock.", 15 SDIO (io) "Serial Data I/O.", 16 SDO (hiz) "Serial Data Output.", 17 CSB (in) "Serial Port Chip Select.", 20 OUT2B (oe) "Complementary LVPECL Output.", 21 OUT2 (oe) "LVPECL Output.", 26 OUT1B (oe) "Complementary LVPECL Output.", 27 OUT1 (oe) "LVPECL Output.", 30 OUT4B (out) "Complementary LVDS/Inverted CMOS Output. OUT4 includes a delay block.", 31 OUT4 (out) "LVDS/CMOS Output. OUT4 includes a delay block.", 34 OUT3B (out) "Complementary LVDS/Inverted CMOS Output.", 35 OUT3 (out) "LVDS/CMOS Output.", 41 OUT0B (oe) "Complementary LVPECL Output.", 42 OUT0 (oe) "LVPECL Output.", 45 RSET (in) "Current Set Resistor to Ground. Nominal value = 4.12 k ohm."
part B pins: 3 VS (power) "Power Supply (3.3 V).", 4 VS (power) "Power Supply (3.3 V).", 6 VS (power) "Power Supply (3.3 V).", 9 VS (power) "Power Supply (3.3 V).", 18 VS (power) "Power Supply (3.3 V).", 19 GND (power) "Ground.", 22 VS (power) "Power Supply (3.3 V).", 23 VS (power) "Power Supply (3.3 V).", 24 GND (power) "Ground", 25 VS (power) "Power Supply (3.3 V).", 28 VS (power) "Power Supply (3.3 V).", 29 VS (power) "Power Supply (3.3 V).", 32 VS (power) "Power Supply (3.3 V).", 33 VS (power) "Power Supply (3.3 V).", 36 VS (power) "Power Supply (3.3 V).", 37 GND (power) "Ground", 38 GND (power) "Ground", 39 VS (power) "Power Supply (3.3 V).", 40 VS (power) "Power Supply (3.3 V).", 43 GND (power) "Ground", 44 VS (power) "Power Supply (3.3 V).", 46 GND (power) "Ground", 47 VS (power) "Power Supply (3.3 V).", 48 VS (power) "Power Supply (3.3 V).", 49 EP (power) "The exposed paddle on this package is an electrical connection as well as a thermal enhancement. For the device to function properly, the paddle must be attached to ground, GND."

## AD9513BCPZ
designator U?
3 Outputs, 800 MHz Clock Distribution IC with Dividers and Delay Adjust, 3.3 V Supply, Industrial, 32-pin QFN (CP-32-2), Tray; Manufacturer: Analog Devices; PartNumber: AD9513BCPZ; # of Inputs: 1; # of Outputs: 3; Supply Voltage (V): 3.3; I/O Interface: Pin Select; Max f-out: 800 MHz; On-Chip VCO or DCO: No; Output Logic: CMOS, LVDS; DatasheetVersion: Rev. 0; PackageVersion: 01/2005; PackageReference: CP-32-2; PackageDescription: 32-Pin Lead Frame Chip Scale Package, Body 5 x 5 mm, Pitch 0.5 mm; Supplier 1: Digi-Key; Supplier Part Number 1: AD9513BCPZ-ND; Supplier 2: Farnell; Supplier Part Number 2: 1117098; Supplier 3: Newark; Supplier Part Number 3: 59K7289; Supplier 4: Mouser; Supplier Part Number 4: 584-AD9513BCPZ; Packing: Tray; Mounting Technology: Surface Mount; Code_JEDEC: MO-220-VHHD-2; ComponentLink1Description: Manufacturer URL; ComponentLink1URL: http://www.analog.com/en/index.html; ComponentLink2Description: Datasheet; ComponentLink2URL: http://www.analog.com/static/imported-files/data_sheets/AD9513.pdf; ComponentLink3Description: Package Specification; ComponentLink3URL: http://www.analog.com/static/imported-files/packages/414143737956480539664569CP_32_2.pdf; ComponentLink4Description: Product URL; ComponentLink4URL: http://www.analog.com/en/clock-and-timing/clock-generation-and-distribution/ad9513/products/product.html; ComponentLink5Description: Reference Circuit; ComponentLink5URL: http://www.analog.com/en/clock-and-timing/clock-generation-and-distribution/ad9513/products/product.html#product-recommendations
footprint ADI-CP-32-2_N (QFN, 32-Leads, Body 5x5mm, Pitch 0.5mm, Thermal Pad 3.1x3.1mm, IPC Medium Density)
footprint ADI-CP-32-2_L (QFN, 32-Leads, Body 5x5mm, Pitch 0.5mm, Thermal Pad 3.1x3.1mm, IPC High Density)
footprint ADI-CP-32-2_M (QFN, 32-Leads, Body 5x5mm, Pitch 0.5mm, Thermal Pad 3.1x3.1mm, IPC Low Density)
part A pins: 2 CLK (in) "Clock Input.", 3 CLKB (in) "Complementary Clock Input.", 5 SYNCB (in) "Used to Synchronize Outputs", 6 VREF (out) "Provides 2/3 VS for use as one of the four logic levels on S0 to S10", 7 S10 (in) "Setup Select Pins. These are 4-state logic. The logic levels are VS, GND, 1/3 VS, and 2/3 VS. The  VREF pin provides 2/3 VS. [see datasheet]", 8 S9 (in) "Setup Select Pins. These are 4-state logic. The logic levels are VS, GND, 1/3 VS, and 2/3 VS. The  VREF pin provides 2/3 VS. [see datasheet]", 9 S8 (in) "Setup Select Pins. These are 4-state logic. The logic levels are VS, GND, 1/3 VS, and 2/3 VS. The  VREF pin provides 2/3 VS. [see datasheet]", 10 S7 (in) "Setup Select Pins. These are 4-state logic. The logic levels are VS, GND, 1/3 VS, and 2/3 VS. The  VREF pin provides 2/3 VS. [see datasheet]", 11 S6 (in) "Setup Select Pins. These are 4-state logic. The logic levels are VS, GND, 1/3 VS, and 2/3 VS. The  VREF pin provides 2/3 VS. [see datasheet]", 12 S5 (in) "Setup Select Pins. These are 4-state logic. The logic levels are VS, GND, 1/3 VS, and 2/3 VS. The  VREF pin provides 2/3 VS. [see datasheet]", 13 S4 (in) "Setup Select Pins. These are 4-state logic. The logic levels are VS, GND, 1/3 VS, and 2/3 VS. The  VREF pin provides 2/3 VS. [see datasheet]", 14 S3 (in) "Setup Select Pins. These are 4-state logic. The logic levels are VS, GND, 1/3 VS, and 2/3 VS. The  VREF pin provides 2/3 VS. [see datasheet]", 15 S2 (in) "Setup Select Pins. These are 4-state logic. The logic levels are VS, GND, 1/3 VS, and 2/3 VS. The  VREF pin provides 2/3 VS. [see datasheet]", 16 S1 (in) "Setup Select Pins. These are 4-state logic. The logic levels are VS, GND, 1/3 VS, and 2/3 VS. The  VREF pin provides 2/3 VS. [see datasheet]", 18 OUT2B (out) "Complementary LVDS/Inverted CMOS Output.", 19 OUT2 (out) "LVDS/CMOS Output.", 22 OUT1B (out) "Complementary LVDS/Inverted CMOS Output. OUT6 includes a delay block.", 23 OUT1 (out) "LVDS/CMOS Output. OUT6 includes a delay block", 25 S0 (in) "Setup Select Pins. These are 4-state logic. The logic levels are VS, GND, 1/3 VS, and 2/3 VS. The  VREF pin provides 2/3 VS. [see datasheet]", 27 OUT0B (out) "Complementary LVDS/Inverted CMOS Output. OUT5 includes a delay block", 28 OUT0 (out) "LVDS/CMOS Output. OUT5 includes a delay block.", 32 RSET (in) "Current Set Resistor to Ground. Nominal value = 4.12 K ohm"
part B pins: 1 VS (power) "Power Supply (3.3 V)", 4 VS (power) "Power Supply (3.3 V)", 17 VS (power) "Power Supply (3.3 V)", 20 VS (power) "Power Supply (3.3 V)", 21 VS (power) "Power Supply (3.3 V)", 24 VS (power) "Power Supply (3.3 V)", 26 VS (power) "Power Supply (3.3 V)", 29 VS (power) "Power Supply (3.3 V)", 30 VS (power) "Power Supply (3.3 V)", 31 GND (power) "Ground. The exposed paddle on the back of the chip is also GND.", 33 EP (power) "Exposed Pad"

## AD9513BCPZ-REEL7
designator U?
3 Outputs, 800 MHz Clock Distribution IC with Dividers and Delay Adjust, 3.3 V Supply, Industrial, 32-pin QFN (CP-32-2), Reel; Manufacturer: Analog Devices; PartNumber: AD9513BCPZ-REEL7; # of Inputs: 1; # of Outputs: 3; Supply Voltage (V): 3.3; I/O Interface: Pin Select; Max f-out: 800 MHz; On-Chip VCO or DCO: No; Output Logic: CMOS, LVDS; DatasheetVersion: Rev. 0; PackageVersion: 01/2005; PackageReference: CP-32-2; PackageDescription: 32-Pin Lead Frame Chip Scale Package, Body 5 x 5 mm, Pitch 0.5 mm; Supplier 1: Digi-Key; Supplier Part Number 1: AD9513BCPZ-REEL7TR-ND; Supplier 2: Digi-Key; Supplier Part Number 2: AD9513BCPZ-REEL7CT-ND; Supplier 3: Digi-Key; Supplier Part Number 3: AD9513BCPZ-REEL7DKR-ND; Supplier 4: Newark; Supplier Part Number 4: 59K7290; Supplier 5: Mouser; Supplier Part Number 5: 584-AD9513BCPZ-R7; Packing: Reel; Mounting Technology: Surface Mount; Code_JEDEC: MO-220-VHHD-2; ComponentLink1Description: Manufacturer URL; ComponentLink1URL: http://www.analog.com/en/index.html; ComponentLink2Description: Datasheet; ComponentLink2URL: http://www.analog.com/static/imported-files/data_sheets/AD9513.pdf; ComponentLink3Description: Package Specification; ComponentLink3URL: http://www.analog.com/static/imported-files/packages/414143737956480539664569CP_32_2.pdf; ComponentLink4Description: Product URL; ComponentLink4URL: http://www.analog.com/en/clock-and-timing/clock-generation-and-distribution/ad9513/products/product.html; ComponentLink5Description: Reference Circuit; ComponentLink5URL: http://www.analog.com/en/clock-and-timing/clock-generation-and-distribution/ad9513/products/product.html#product-recommendations
footprint ADI-CP-32-2_N (QFN, 32-Leads, Body 5x5mm, Pitch 0.5mm, Thermal Pad 3.1x3.1mm, IPC Medium Density)
footprint ADI-CP-32-2_L (QFN, 32-Leads, Body 5x5mm, Pitch 0.5mm, Thermal Pad 3.1x3.1mm, IPC High Density)
footprint ADI-CP-32-2_M (QFN, 32-Leads, Body 5x5mm, Pitch 0.5mm, Thermal Pad 3.1x3.1mm, IPC Low Density)
part A pins: 2 CLK (in) "Clock Input.", 3 CLKB (in) "Complementary Clock Input.", 5 SYNCB (in) "Used to Synchronize Outputs", 6 VREF (out) "Provides 2/3 VS for use as one of the four logic levels on S0 to S10", 7 S10 (in) "Setup Select Pins. These are 4-state logic. The logic levels are VS, GND, 1/3 VS, and 2/3 VS. The  VREF pin provides 2/3 VS. [see datasheet]", 8 S9 (in) "Setup Select Pins. These are 4-state logic. The logic levels are VS, GND, 1/3 VS, and 2/3 VS. The  VREF pin provides 2/3 VS. [see datasheet]", 9 S8 (in) "Setup Select Pins. These are 4-state logic. The logic levels are VS, GND, 1/3 VS, and 2/3 VS. The  VREF pin provides 2/3 VS. [see datasheet]", 10 S7 (in) "Setup Select Pins. These are 4-state logic. The logic levels are VS, GND, 1/3 VS, and 2/3 VS. The  VREF pin provides 2/3 VS. [see datasheet]", 11 S6 (in) "Setup Select Pins. These are 4-state logic. The logic levels are VS, GND, 1/3 VS, and 2/3 VS. The  VREF pin provides 2/3 VS. [see datasheet]", 12 S5 (in) "Setup Select Pins. These are 4-state logic. The logic levels are VS, GND, 1/3 VS, and 2/3 VS. The  VREF pin provides 2/3 VS. [see datasheet]", 13 S4 (in) "Setup Select Pins. These are 4-state logic. The logic levels are VS, GND, 1/3 VS, and 2/3 VS. The  VREF pin provides 2/3 VS. [see datasheet]", 14 S3 (in) "Setup Select Pins. These are 4-state logic. The logic levels are VS, GND, 1/3 VS, and 2/3 VS. The  VREF pin provides 2/3 VS. [see datasheet]", 15 S2 (in) "Setup Select Pins. These are 4-state logic. The logic levels are VS, GND, 1/3 VS, and 2/3 VS. The  VREF pin provides 2/3 VS. [see datasheet]", 16 S1 (in) "Setup Select Pins. These are 4-state logic. The logic levels are VS, GND, 1/3 VS, and 2/3 VS. The  VREF pin provides 2/3 VS. [see datasheet]", 18 OUT2B (out) "Complementary LVDS/Inverted CMOS Output.", 19 OUT2 (out) "LVDS/CMOS Output.", 22 OUT1B (out) "Complementary LVDS/Inverted CMOS Output. OUT6 includes a delay block.", 23 OUT1 (out) "LVDS/CMOS Output. OUT6 includes a delay block", 25 S0 (in) "Setup Select Pins. These are 4-state logic. The logic levels are VS, GND, 1/3 VS, and 2/3 VS. The  VREF pin provides 2/3 VS. [see datasheet]", 27 OUT0B (out) "Complementary LVDS/Inverted CMOS Output. OUT5 includes a delay block", 28 OUT0 (out) "LVDS/CMOS Output. OUT5 includes a delay block.", 32 RSET (in) "Current Set Resistor to Ground. Nominal value = 4.12 K ohm"
part B pins: 1 VS (power) "Power Supply (3.3 V)", 4 VS (power) "Power Supply (3.3 V)", 17 VS (power) "Power Supply (3.3 V)", 20 VS (power) "Power Supply (3.3 V)", 21 VS (power) "Power Supply (3.3 V)", 24 VS (power) "Power Supply (3.3 V)", 26 VS (power) "Power Supply (3.3 V)", 29 VS (power) "Power Supply (3.3 V)", 30 VS (power) "Power Supply (3.3 V)", 31 GND (power) "Ground. The exposed paddle on the back of the chip is also GND.", 33 EP (power) "Exposed Pad"